# EAGLE library part PIC18F1320 (library E&R_Microchip)
PIC18F25K22
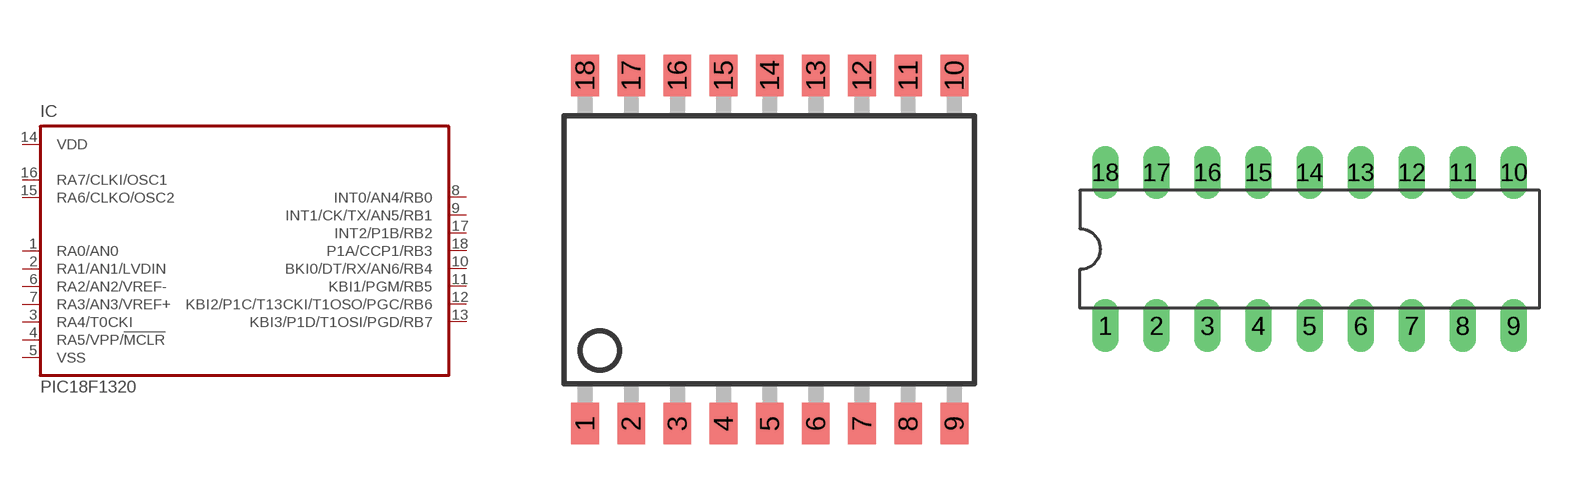
[diagram p1: symbol with the pads of SO-18W; footprints SO-18W, DIL18]

Designator prefix IC

## PIC18F1320SO-18W  [SO-18W]
1  RA0/AN0
2  RA1/AN1/LVDIN
3  RA4/T0CKI
4  RA5/VPP/!MCLR  in
5  VSS  pwr
6  RA2/AN2/VREF-
7  RA3/AN3/VREF+
8  INT0/AN4/RB0
9  INT1/CK/TX/AN5/RB1
10  BKI0/DT/RX/AN6/RB4
11  KBI1/PGM/RB5
12  KBI2/P1C/T13CKI/T1OSO/PGC/RB6
13  KBI3/P1D/T1OSI/PGD/RB7
14  VDD  pwr
15  RA6/CLKO/OSC2
16  RA7/CLKI/OSC1
17  INT2/P1B/RB2
18  P1A/CCP1/RB3

## PIC18F1320DIP  [DIL18]
Pads as for SO-18W

## Footprint SO-18W (pad centres in mm)
Small Outline Wide Plastic Gull Wing package type SO
smd 0.762 x 1.143: 1 -5.08,-4.788; 2 -3.81,-4.788; 3 -2.54,-4.788; 4 -1.27,-4.788; 5 0,-4.788; 6 1.27,-4.788; 7 2.54,-4.788; 8 3.81,-4.788; 9 5.08,-4.788; 10 5.08,4.788; 11 3.81,4.788; 12 2.54,4.788; 13 1.27,4.788; 14 0,4.788; 15 -1.27,4.788; 16 -2.54,4.788; 17 -3.81,4.788; 18 -5.08,4.788

## Footprint DIL18 (pad centres in mm)
Dual In Line Package
drill 0.813 long: 1 -10.16,-3.81; 2 -7.62,-3.81; 3 -5.08,-3.81; 4 -2.54,-3.81; 5 0,-3.81; 6 2.54,-3.81; 7 5.08,-3.81; 8 7.62,-3.81; 9 10.16,-3.81; 10 10.16,3.81; 11 7.62,3.81; 12 5.08,3.81; 13 2.54,3.81; 14 0,3.81; 15 -2.54,3.81; 16 -5.08,3.81; 17 -7.62,3.81; 18 -10.16,3.81